# Altium schematic symbol library HDMI.SchLib: 1 symbol
Pins are listed as number, name and electrical type; pins without a type are passive.

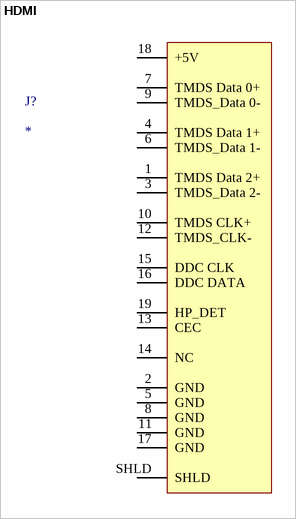
[diagram p0: symbol HDMI]

## HDMI
designator J?
pins: 1 TMDS Data 2+, 2 GND, 3 TMDS_Data 2-, 4 TMDS Data 1+, 5 GND, 6 TMDS_Data 1-, 7 TMDS Data 0+, 8 GND, 9 TMDS_Data 0-, 10 TMDS CLK+, 11 GND, 12 TMDS_CLK-, 13 CEC, 14 NC, 15 DDC CLK, 16 DDC DATA, 17 GND, 18 +5V, 19 HP_DET, SHLD